# EAGLE library part LIS2DE (library stock_components)
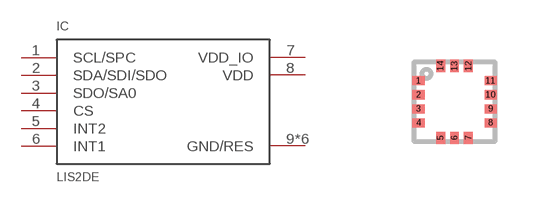
[diagram p4: symbol with the pads of LGA-14; footprint LGA-14]

Designator prefix IC

## LIS2DE  [LGA-14]
1  SCL/SPC  in
2  SDA/SDI/SDO
3  SDO/SA0
4  CS  in
5  INT2  out
6  INT1  out
7  VDD_IO  sup
8  VDD  sup
9  GND/RES  sup
10  GND/RES  sup
11  GND/RES  sup
12  GND/RES  sup
13  GND/RES  sup
14  GND/RES  sup

## Footprint LGA-14 (pad centres in mm)
smd 0.3 x 0.225: 1 -0.9,0.525; 2 -0.9,0.175; 3 -0.9,-0.175; 4 -0.9,-0.525; 8 0.9,-0.525; 9 0.9,-0.175; 10 0.9,0.175; 11 0.9,0.525
smd 0.225 x 0.3: 5 -0.35,-0.9; 6 0,-0.9; 7 0.35,-0.9; 12 0.35,0.9; 13 0,0.9; 14 -0.35,0.9